# Altium schematic symbol library 常用.SchLib: 54 symbols
Pins are listed as number, name and electrical type; pins without a type are passive.

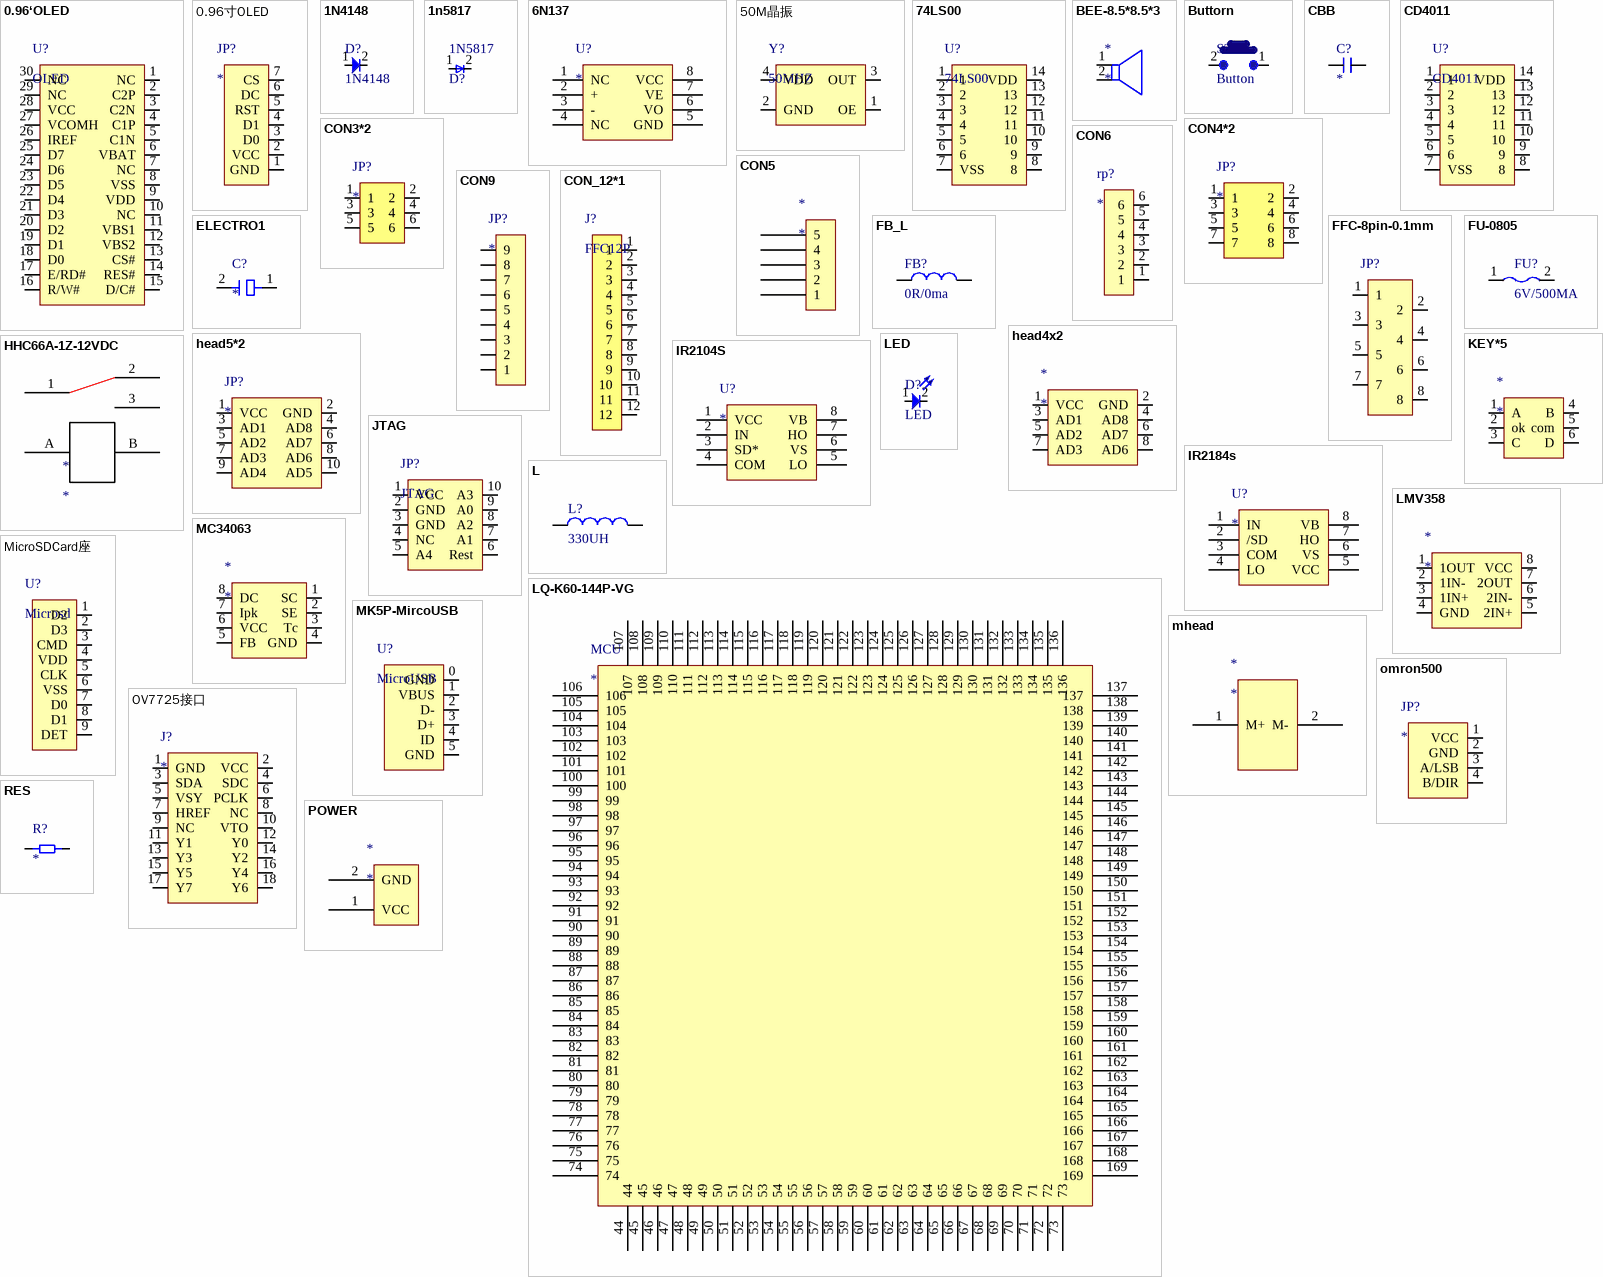
[diagram p0: symbols 0.96‘OLED to RES]

## 0.96‘OLED
designator U?, comment OLED
pins: 1 NC, 2 C2P, 3 C2N, 4 C1P, 5 C1N, 6 VBAT, 7 NC, 8 VSS, 9 VDD, 10 NC, 11 VBS1, 12 VBS2, 13 CS#, 14 RES#, 15 D/C#, 16 R/W#, 17 E/RD#, 18 D0, 19 D1, 20 D2, 21 D3, 22 D4, 23 D5, 24 D6, 25 D7, 26 IREF, 27 VCOMH, 28 VCC, 29 NC, 30 NC

## 0.96寸OLED
designator JP?
pins: 1 GND, 2 VCC, 3 D0, 4 D1, 5 RST, 6 DC, 7 CS

## 1N4148
designator D?
pins: 1, 2

## 1n5817
designator 1N5817, comment D?
pins: 1, 2

## 6N137
designator U?
pins: 1 NC, 2 +, 3 -, 4 NC, 5 GND, 6 VO, 7 VE, 8 VCC

## 50M晶振
designator Y?, comment 50MHZ
footprint 50MHz-5032
pins: 1 OE, 2 GND, 3 OUT, 4 VDD

## 74LS00
designator U?
pins: 1, 2, 3, 4, 5, 6, 7 VSS, 8, 9, 10, 11, 12, 13, 14 VDD

## BEE-8.5*8.5*3
designator *
pins: 1, 2

## Buttorn
designator S?, comment Button
pins: 1, 2

## CBB
designator C?
pins: 1, 2 (power)

## CD4011
designator U?
pins: 1, 2, 3, 4, 5, 6, 7 VSS, 8, 9, 10, 11, 12, 13, 14 VDD

## CON3*2
designator JP?
pins: 1, 2, 3, 4, 5, 6

## CON4*2
designator JP?
footprint FFC/FPC-0.5mm-8pin-lishi
pins: 1, 2, 3, 4, 5, 6, 7, 8

## CON5
designator *
pins: 1, 2, 3, 4, 5

## CON6
designator rp?
pins: 1, 2, 3, 4, 5, 6

## CON9
designator JP?
pins: 1, 2, 3, 4, 5, 6, 7, 8, 9

## CON_12*1
designator J?, comment FFC12P
pins: 1, 2, 3, 4, 5, 6, 7, 8, 9, 10, 11, 12

## ELECTRO1
designator C?
电解电容
pins: 1, 2

## FB_L
designator FB?, comment 0R/0ma
pins: 1, 2

## FFC-8pin-0.1mm
designator JP?  (value not drawn)
footprint FFC/FPC-0.5mm-8pin-lishi
pins: 1, 2, 3, 4, 5, 6, 7, 8

## FU-0805
designator FU?, comment 6V/500MA
pins: 1, 2

## head4x2
designator *
pins: 1 VCC, 2 GND, 3 AD1, 4 AD8, 5 AD2, 6 AD7, 7 AD3, 8 AD6

## head5*2
designator JP?
pins: 1 VCC, 2 GND, 3 AD1, 4 AD8, 5 AD2, 6 AD7, 7 AD3, 8 AD6, 9 AD4, 10 AD5

## HHC66A-1Z-12VDC
designator *
pins: 1, 2, 3, A, B

## IR2104S
designator U?
pins: 1 VCC, 2 IN, 3 SD*, 4 COM, 5 LO, 6 VS, 7 HO, 8 VB

## IR2184s
designator U?
pins: 1 IN, 2 /SD, 3 COM, 4 LO, 5 VCC, 6 VS, 7 HO, 8 VB

## JTAG
designator JP?
pins: 1 VCC, 2 GND, 3 GND, 4 NC, 5 A4, 6 Rest, 7 A1, 8 A2, 9 A0, 10 A3

## KEY*5
designator *
pins: 1 A, 2 ok, 3 C, 4 B, 5 com, 6 D

## L
designator L?, comment 330UH
pins: 1, 2

## LED
designator D?
pins: 1, 2

## LMV358
designator *
pins: 1 1OUT, 2 1IN-, 3 1IN+, 4 GND, 5 2IN+, 6 2IN-, 7 2OUT, 8 VCC

## LQ-K60-144P-VG
designator MCU
pins: 44, 45, 46, 47, 48, 49, 50, 51, 52, 53, 54, 55, 56, 57, 58, 59, 60, 61, 62, 63, 64, 65, 66, 67, 68, 69, 70, 71, 72, 73, 74, 75, 76, 77, 78, 79, 80, 81, 82, 83, 84, 85, 86, 87, 88, 89, 90, 91, 92, 93, 94, 95, 96, 97, 98, 99, 100, 101, 102, 103, 104, 105, 106, 107, 108, 109, 110, 111, 112, 113, 114, 115, 116, 117, 118, 119, 120, 121, 122, 123, 124, 125, 126, 127, 128, 129, 130, 131, 132, 133, 134, 135, 136, 137, 138, 139, 140, 141, 142, 143, 144, 145, 146, 147, 148, 149, 150, 151, 152, 153, 154, 155, 156, 157, 158, 159, 160, 161, 162, 163, 164, 165, 166, 167, 168, 169

## MC34063
designator *
pins: 1 SC, 2 SE, 3 Tc, 4 GND, 5 FB, 6 VCC, 7 Ipk, 8 DC

## mhead
designator *
pins: 1 M+, 2 M-

## MicroSDCard座
designator U?, comment Microsd
pins: 1 D2, 2 D3, 3 CMD, 4 VDD, 5 CLK, 6 VSS, 7 D0, 8 D1, 9 DET

## MK5P-MircoUSB
designator U?, comment MicroUSB
footprint Mirco-usb-MK5P
pins: 0 GND, 1 VBUS, 2 D-, 3 D+, 4 ID, 5 GND

## omron500
designator JP?
pins: 1 VCC, 2 GND, 3 A/LSB, 4 B/DIR

## OV7725接口
designator J?
pins: 1 GND, 2 VCC, 3 SDA, 4 SDC, 5 VSY, 6 PCLK, 7 HREF, 8 NC, 9 NC, 10 VTO, 11 Y1, 12 Y0, 13 Y3, 14 Y2, 15 Y5, 16 Y4, 17 Y7, 18 Y6

## POWER
designator *
pins: 1 VCC, 2 GND

## RES
designator R?
pins: 1, 2

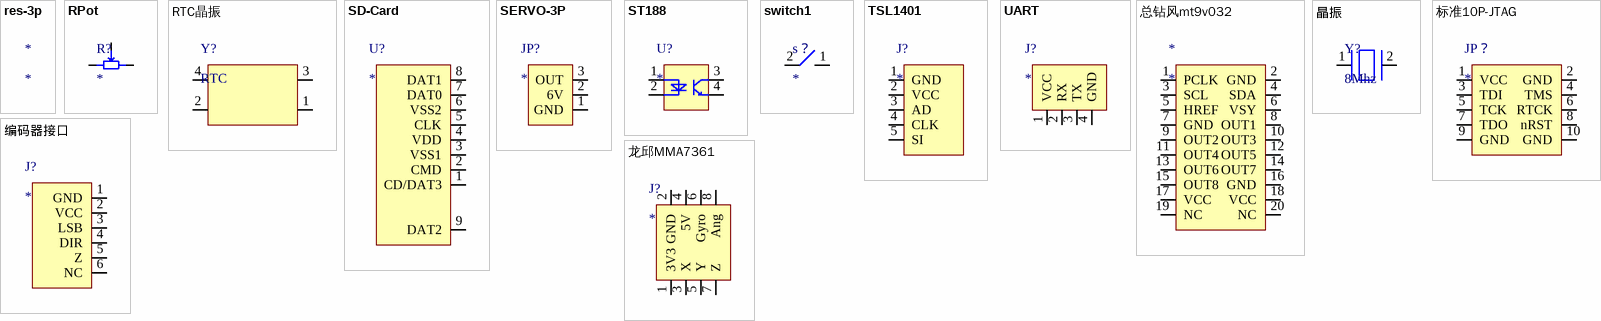
[diagram p1: symbols res-3p to 龙邱MMA7361]

## res-3p
designator *

## RPot
designator R?
pins: 1, 2, 3

## RTC晶振
designator Y?, comment RTC
footprint KDS-32.768khz
pins: 1 OE, 2 GND, 3 OUT, 4 VDD

## SD-Card
designator U?
pins: 1 CD/DAT3, 2 CMD, 3 VSS1, 4 VDD, 5 CLK, 6 VSS2, 7 DAT0, 8 DAT1, 9 DAT2

## SERVO-3P
designator JP?
pins: 1 GND, 2 6V, 3 OUT

## ST188
designator U?
pins: 1 A, 2 K, 3 C, 4 E

## switch1
designator s？
pins: 1, 2

## TSL1401
designator J?
pins: 1 GND, 2 VCC, 3 AD, 4 CLK, 5 SI

## UART
designator J?
pins: 1 VCC, 2 RX, 3 TX, 4 GND

## 总钻风mt9v032
designator *
pins: 1 PCLK, 2 GND, 3 SCL, 4 SDA, 5 HREF, 6 VSY, 7 GND, 8 OUT1, 9 OUT2, 10 OUT3, 11 OUT4, 12 OUT5, 13 OUT6, 14 OUT7, 15 OUT8, 16 GND, 17 VCC, 18 VCC, 19 NC, 20 NC

## 晶振
designator Y?, comment 8Mhz
pins: 1, 2

## 标准10P-JTAG
designator JP？
pins: 1 VCC, 2 GND, 3 TDI, 4 TMS, 5 TCK, 6 RTCK, 7 TDO, 8 nRST, 9 GND, 10 GND

## 编码器接口
designator J?
pins: 1 GND, 2 VCC, 3 LSB, 4 DIR, 5 Z, 6 NC

## 龙邱MMA7361
designator J?
pins: 1 3V3, 2 GND, 3 X, 4 5V, 5 Y, 6 Gyro, 7 Z, 8 Ang